# Altium footprint library 7466310.PcbLib: 1 footprints
Each footprint in its own frame and in the unit in brackets; x right, y up, seen from the top. Pads: shape width x height; smd on the part's side, far side on the other; paste and mask are expansions set on the pad; w line width, h text height; cw(c..) or ccw(c..) is an arc to the next point about the centre after c.
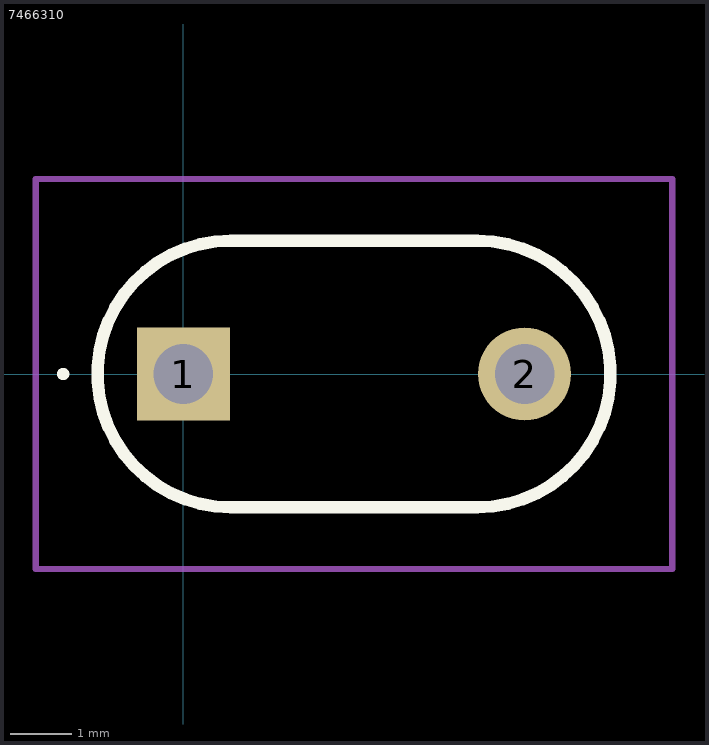
[diagram p0: the footprint, top view; thin cyan lines are the x and y axes]

## 7466310 [mm]
pads (2):
  rect 1.509x1.509 hole 0.97: 1(0,0)
  round 1.509 hole 0.97: 2(5.54,0)
Top Overlay:
  lines w0.1: -2,0 -2,0 ; -2,0 ccw(c-1.95,0) -1.9,0 ; -2,0 cw(c-1.95,0) -1.9,0 ; -1.9,0 -1.9,0
  lines w0.2: 0.77,2.165 4.77,2.165 cw(c4.77,0) 4.77,-2.165 ; 0.77,2.165 0.77,2.165 ; 0.77,2.165 ccw(c0.77,0) 0.77,-2.165 4.77,-2.165 ; 4.77,-2.165 4.77,-2.165
Mechanical 15:
  lines w0.1: 0.77,-2.165 4.77,-2.165 ccw(c4.77,0) 4.77,2.165 ; 0.77,-2.165 0.77,-2.165 ; 0.77,-2.165 cw(c0.77,0) 0.77,2.165 4.77,2.165 ; 4.77,2.165 4.77,2.165
Mechanical 20:
  lines w0.1: -2.395,-3.165 7.935,-3.165 7.935,3.165 -2.395,3.165 -2.395,-3.165